# Altium footprint library Glove.PcbLib: 21 footprints (part 2 of 2)
Each footprint in its own frame and in the unit in brackets; x right, y up, seen from the top. Pads: shape width x height; smd on the part's side, far side on the other; paste and mask are expansions set on the pad; w line width, h text height; cw(c..) or ccw(c..) is an arc to the next point about the centre after c.
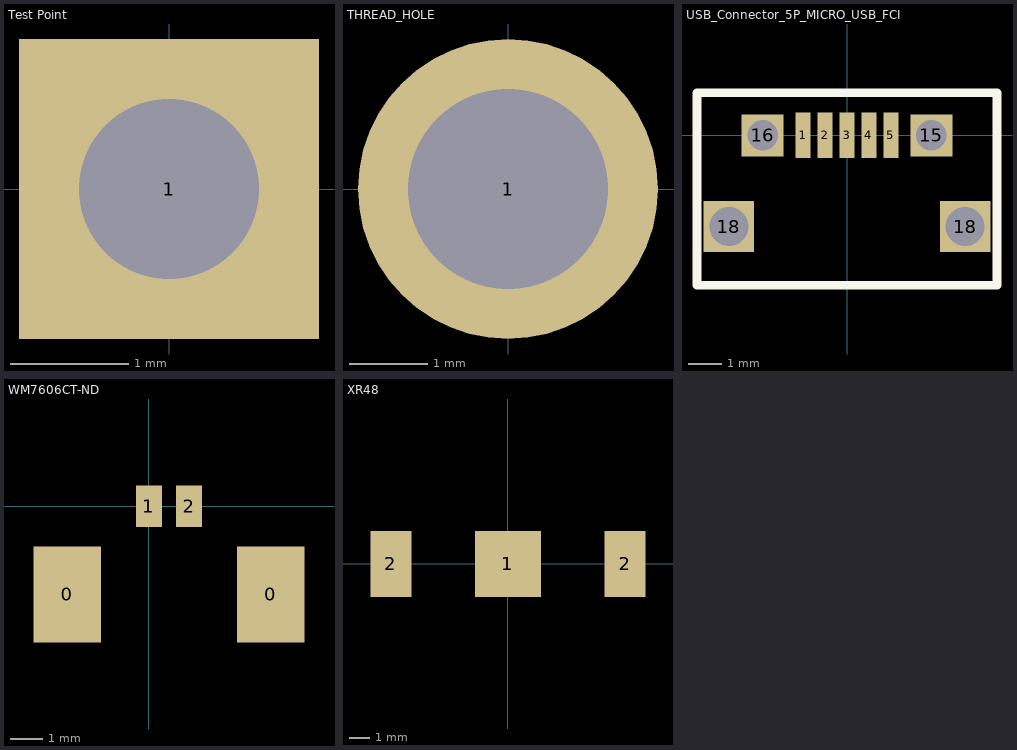
[diagram p1: the footprints below, top view; thin cyan lines are the x and y axes]

## Test Point [mil]
pads (1):
  rect 100x100 hole 60: 1(0,0)

## THREAD_HOLE [mm] "MAGNETIC_THREAD_HOLE"
pads (1):
  round 3.81 hole 2.54: 1(0,0)

## USB_Connector_5P_MICRO_USB_FCI [mm] "USB_Connector_5P_MICRO_USB_FCI_TypeB"
pads (9):
  rect 0.45x1.35 smd: 1(-1.3,0) 2(-0.65,0) 3(0,0) 4(0.65,0) 5(1.3,0)
  rect 1.25x1.25 hole 0.9: 15(2.5,0) 16(-2.5,0)
  rect 1.5x1.5 hole 1.15: 18(-3.5,-2.7) 18(3.5,-2.7)
Top Overlay:
  lines w0.254: -4.445,-4.445 4.445,-4.445 4.445,1.27 -4.445,1.27 -4.445,-4.445
3D body "UsbMicro-10118194.step": height 2.73, standoff -0.55, extent -4.025,-5.334 4.025,0.246

## WM7606CT-ND [mm]
pads (4):
  rect 2.1x3 smd: 0(-2.55,-2.75) 0(3.8,-2.75)
  rect 0.8x1.3 smd: 1(0,0) 2(1.25,0)
3D body "533980271.stp": height 4.72, standoff -0.02, extent -3.19,-3.759 4.46,0.441

## XR48 [mm] "Size 13 Coin Cell Battery"
pads (3):
  rect 3.2x3.2 smd: 1(0,0)
  rect 2x3.2 smd: 2(-5.7,0) 2(5.7,0)
3D body "SR48_Cell_Coin Battery.STEP": height 5.5, standoff 0.1, extent -3.95,-3.95 3.95,3.95
3D body "keystone-PN2988.STEP": height 5.75, standoff 0.04, extent -6.68,-3.175 6.68,4.189